# EAGLE library part 100DP*T1B1? (library 0_skookumsynth_switch)
SWITCH, TOGGLE, DPDT, ON-ON-ON
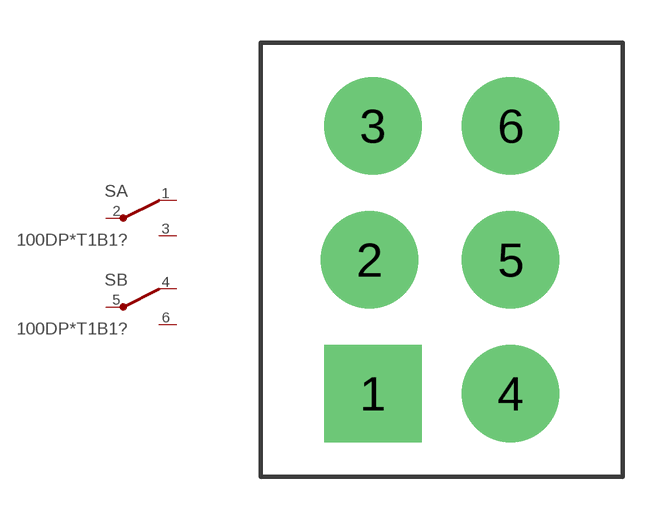
[diagram p0: symbol with the pads of 100DP; footprint 100DP]

Designator prefix S; gates A=SPDT B=SPDT

## 100DP6T1B1M1 (DIGIKEY_PART_NO: 100DP6T1B1M1RE-ND; MFG: E-Switch; MFG_PART_NO: 100DP6T1B1M1; MOUSER_PART_NO: 612-100-L1111)  [100DP]
1  A:T1  pas
2  A:P  pas
3  A:T2  pas
4  B:T1  pas
5  B:P  pas
6  B:T2  pas

## Footprint 100DP (pad centres in mm)
drill 2.4 square: 1 -2.415,-4.7
drill 2.4: 2 -2.54,0; 3 -2.415,4.7; 4 2.415,-4.7; 5 2.415,0; 6 2.415,4.7